# Altium schematic symbol library lcd_14p.SchLib: 1 symbol
Pins are listed as number, name and electrical type; pins without a type are passive.

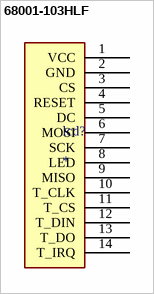
[diagram p0: symbol 68001-103HLF]

## 68001-103HLF
designator lcd?
Conn Rect UnshroudedHdr 3Cnts ThruHole BergStik 2.54mmPin-Spng Vert 1-Row | Amphenol FCI (Amphenol CS) 68001-103HLF; SnapEDA_Link: https://www.snapeda.com/parts/68001-103HLF/Amphenol/view-part/?ref=snap; Package: None; Value: *; MF: Amphenol; MP: 68001-103HLF; Check_prices: https://www.snapeda.com/parts/68001-103HLF/Amphenol/view-part/?ref=eda
footprint AMPHENOL_68001-103HLF
footprint AMPHENOL_68001-103HLF
pins: 1 VCC, 2 GND, 3 CS, 4 RESET, 5 DC, 6 MOSI, 7 SCK, 8 LED, 9 MISO, 10 T_CLK, 11 T_CS, 12 T_DIN, 13 T_DO, 14 T_IRQ